# Altium integrated library TI Data Converters Analog to Digital Converter.IntLib: 2198 symbols (part 117 of 164)
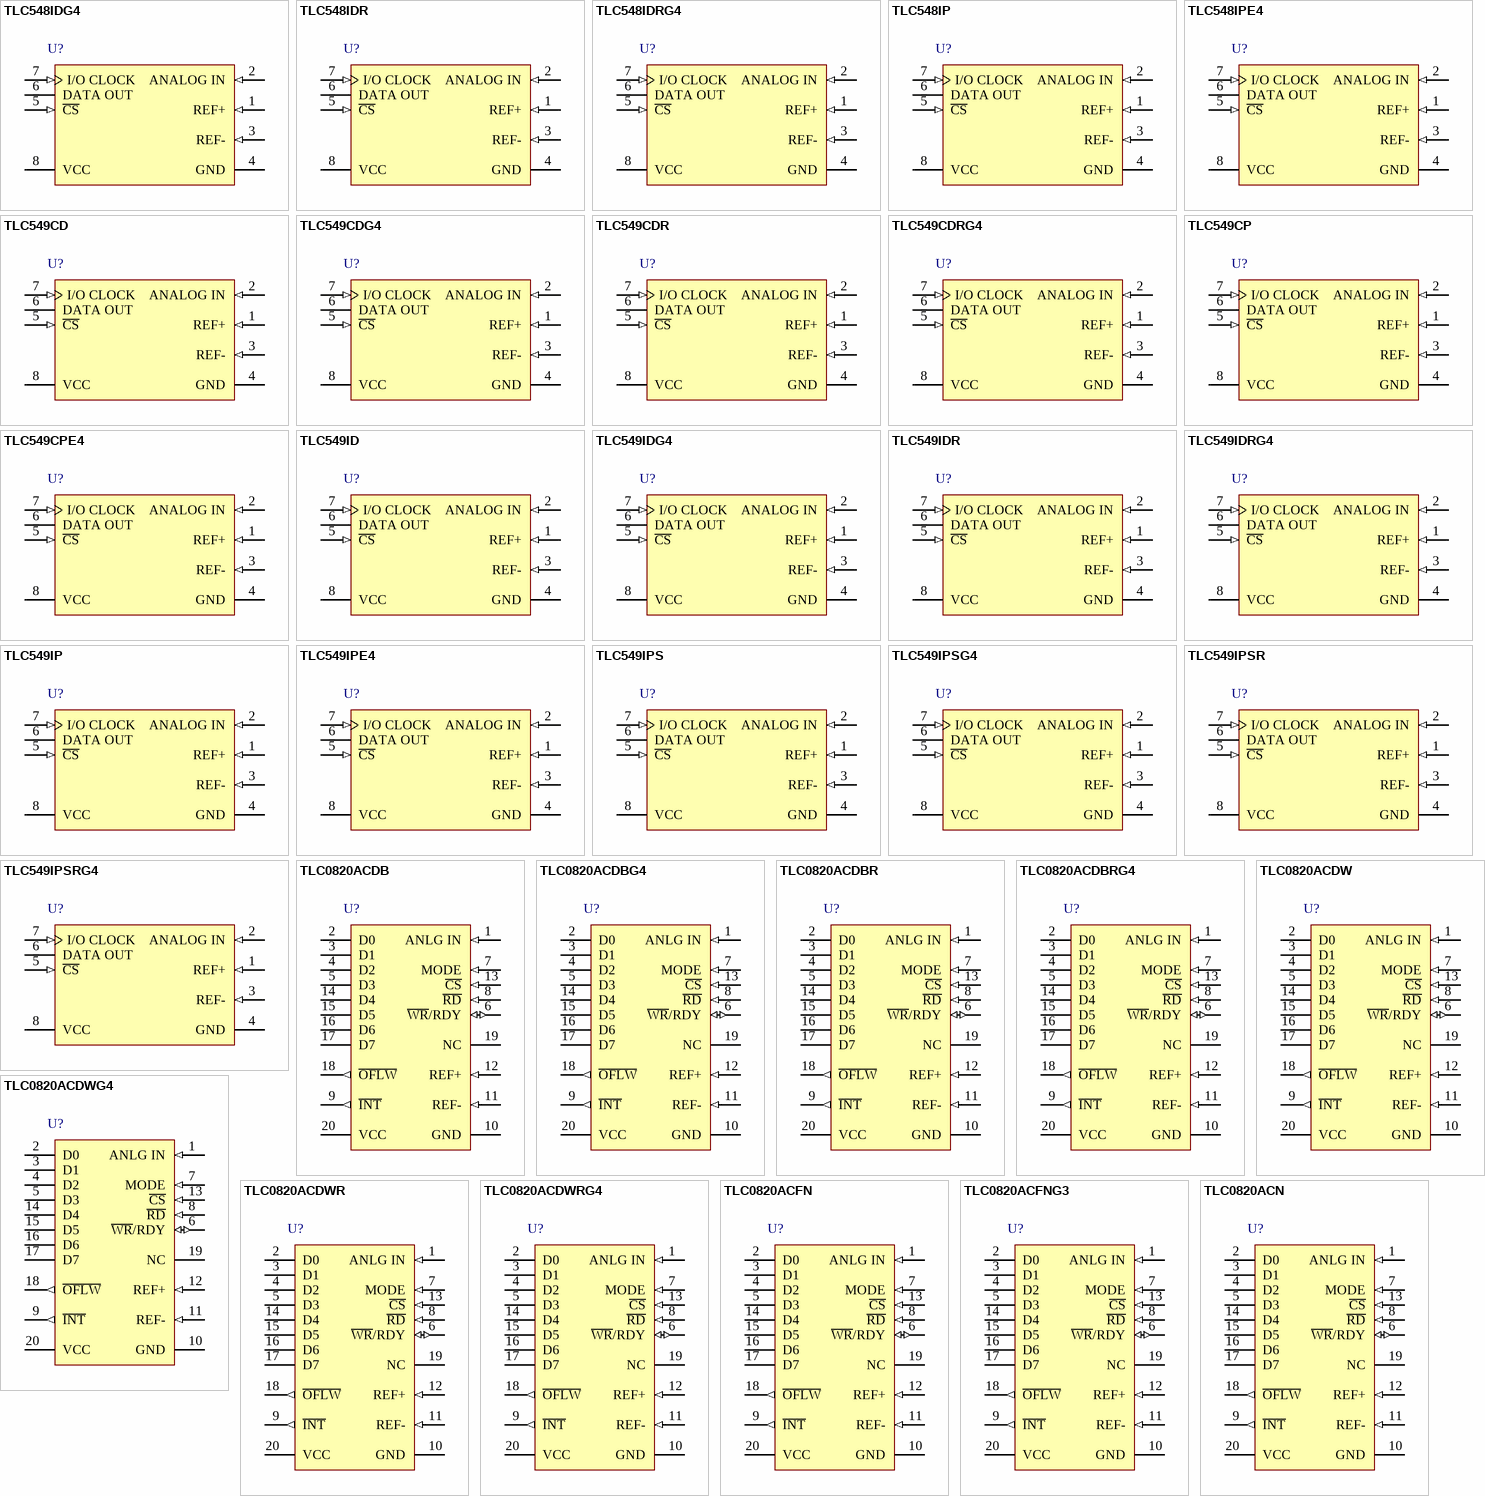
[diagram p242: symbols TLC548IDG4 to TLC0820ACN]

## TLC0820ACDWR
designator U?
8-Bit, 392 kSPS ADC Parallel Out, Microprocessor Peripheral, On-Chip Track-and-Hold, Single Channel, 0 to 70 degC, 20-pin SOIC (DW20), Green (RoHS & no Sb/Br); Manufacturer: Texas Instruments; PartNumber: TLC0820ACDWR; # Input Channels: 1; Analog Voltage AV/DD(Max)(V): 8; Analog Voltage AV/DD(Min)(V): 4.5; Architecture: SAR; Interface: Parallel CMOS; Sample Rate (max)(SPS): 392k; SubFamily: Precision ADC (<=10MSPS); DatasheetVersion: SLAS064A; PackageVersion: 4040000-4/G, 01/2011; PackageReference: DW20; PackageDescription: 20-Pin Plastic Small Outline, Body 12.8 x 7.5 mm, Pitch 1.27 mm; Supplier 1: Digi-Key; Supplier Part Number 1: TLC2543CDWG4-ND; Digital Supply(Max)(V): 8; Digital Supply(Min)(V): 4.5; Eco-Plan: Green (RoHS & no Sb/Br); Resolution(Bits): 8; Mounting Technology: Surface Mount; Code_JEDEC: MO-013; ComponentLink1Description: Manufacturer URL; ComponentLink1URL: http://www.ti.com/; ComponentLink2Description: Datasheet; ComponentLink2URL: http://www.ti.com/general/docs/lit/getliterature.tsp?genericPartNumber=TLC0820A&fileType=pdf; ComponentLink3Description: Package Specification; ComponentLink3URL: http://www.ti.com/lit/ml/mpds173a/mpds173a.pdf
footprint TI-DW20_N (SOIC, 20-Leads, Body 12.8x7.5mm, Pitch 1.27mm, IPC Medium Density)
footprint TI-DW20_L (SOIC, 20-Leads, Body 12.8x7.5mm, Pitch 1.27mm, IPC High Density)
footprint TI-DW20_M (SOIC, 20-Leads, Body 12.8x7.5mm, Pitch 1.27mm, IPC Low Density)
pins: 1 ANLG IN (in) "Analog input", 2 D0 (hiz) "Digital, 3-state output data, bit 1 (LSB)", 3 D1 (hiz) "Digital, 3-state output data, bit 2", 4 D2 (hiz) "Digital, 3-state output data, bit 3", 5 D3 (hiz) "Digital, 3-state output data, bit 4", 6 ~{WR}/RDY (io) "Write ready. In the write-read mode with C\S\ low, the conversion is started on the falling edge of the W\R\ input signal. The result of the conversion is strobed into the output latch after the internal count-down delay (See Datasheet)", 7 MODE (in) "Mode select. MODE is internally tied to GND through a 50-uA current source, which acts like a pulldown resistor.When MODE is low, the read mode is selected. When MODE is high, the write-read mode is selected.", 8 ~{RD} (in) "Read. In the write-read mode with C\S\ low, the 3-state data outputs D0 through D7 are activated when R\D\ goes low. R\D\ can also be used to increase the conversion speed by reading data prior to the end of the internal (See Datasheet)", 9 ~{INT} (out) "Interrupt. In the write-read mode, the interrupt output (I\N\T\) going low indicates that the internal count-down delay time, td(int), is complete and the data result is in the output latch. The delay time td(int) is (See Datasheet)", 10 GND (power) "Ground", 11 REF- (in) "Reference voltage. REF- is placed on the bottom of the resistor ladder.", 12 REF+ (in) "Reference voltage. REF+ is placed on the top of the resistor ladder.", 13 ~{CS} (in) "Chip select. C\S\ must be low in order for R\D\ or W\R\ to be recognized by the ADC.", 14 D4 (hiz) "Digital, 3-state output data, bit 5", 15 D5 (hiz) "Digital, 3-state output data, bit 6", 16 D6 (hiz) "Digital, 3-state output data, bit 7", 17 D7 (hiz) "Digital, 3-state output data, bit 8 (MSB)", 18 ~{OFLW} (out) "Overflow. Normally O\F\L\W\ is a logical high. However, if the analog input is higher than Vref+, O\F\L\W\ will be low at the end of conversion. It can be used to cascade two or more devices to improve resolution (9 or 10 (See Datasheet)", 19 NC "No internal connection", 20 VCC (power) "Power supply voltage"

## TLC0820ACDWRG4
designator U?
8-Bit, 392 kSPS ADC Parallel Out, Microprocessor Peripheral, On-Chip Track-and-Hold, Single Channel, 0 to 70 degC, 20-pin SOIC (DW20), Green (RoHS & no Sb/Br); Manufacturer: Texas Instruments; PartNumber: TLC0820ACDWRG4; # Input Channels: 1; Analog Voltage AV/DD(Max)(V): 8; Analog Voltage AV/DD(Min)(V): 4.5; Architecture: SAR; Interface: Parallel CMOS; Sample Rate (max)(SPS): 392k; SubFamily: Precision ADC (<=10MSPS); DatasheetVersion: SLAS064A; PackageVersion: 4040000-4/G, 01/2011; PackageReference: DW20; PackageDescription: 20-Pin Plastic Small Outline, Body 12.8 x 7.5 mm, Pitch 1.27 mm; Supplier 1: Digi-Key; Supplier Part Number 1: 296-1307-2-ND; Digital Supply(Max)(V): 8; Digital Supply(Min)(V): 4.5; Eco-Plan: Green (RoHS & no Sb/Br); Resolution(Bits): 8; Mounting Technology: Surface Mount; Code_JEDEC: MO-013; ComponentLink1Description: Manufacturer URL; ComponentLink1URL: http://www.ti.com/; ComponentLink2Description: Datasheet; ComponentLink2URL: http://www.ti.com/general/docs/lit/getliterature.tsp?genericPartNumber=TLC0820A&fileType=pdf; ComponentLink3Description: Package Specification; ComponentLink3URL: http://www.ti.com/lit/ml/mpds173a/mpds173a.pdf
footprint TI-DW20_N (SOIC, 20-Leads, Body 12.8x7.5mm, Pitch 1.27mm, IPC Medium Density)
footprint TI-DW20_L (SOIC, 20-Leads, Body 12.8x7.5mm, Pitch 1.27mm, IPC High Density)
footprint TI-DW20_M (SOIC, 20-Leads, Body 12.8x7.5mm, Pitch 1.27mm, IPC Low Density)
pins: 1 ANLG IN (in) "Analog input", 2 D0 (hiz) "Digital, 3-state output data, bit 1 (LSB)", 3 D1 (hiz) "Digital, 3-state output data, bit 2", 4 D2 (hiz) "Digital, 3-state output data, bit 3", 5 D3 (hiz) "Digital, 3-state output data, bit 4", 6 ~{WR}/RDY (io) "Write ready. In the write-read mode with C\S\ low, the conversion is started on the falling edge of the W\R\ input signal. The result of the conversion is strobed into the output latch after the internal count-down delay (See Datasheet)", 7 MODE (in) "Mode select. MODE is internally tied to GND through a 50-uA current source, which acts like a pulldown resistor.When MODE is low, the read mode is selected. When MODE is high, the write-read mode is selected.", 8 ~{RD} (in) "Read. In the write-read mode with C\S\ low, the 3-state data outputs D0 through D7 are activated when R\D\ goes low. R\D\ can also be used to increase the conversion speed by reading data prior to the end of the internal (See Datasheet)", 9 ~{INT} (out) "Interrupt. In the write-read mode, the interrupt output (I\N\T\) going low indicates that the internal count-down delay time, td(int), is complete and the data result is in the output latch. The delay time td(int) is (See Datasheet)", 10 GND (power) "Ground", 11 REF- (in) "Reference voltage. REF- is placed on the bottom of the resistor ladder.", 12 REF+ (in) "Reference voltage. REF+ is placed on the top of the resistor ladder.", 13 ~{CS} (in) "Chip select. C\S\ must be low in order for R\D\ or W\R\ to be recognized by the ADC.", 14 D4 (hiz) "Digital, 3-state output data, bit 5", 15 D5 (hiz) "Digital, 3-state output data, bit 6", 16 D6 (hiz) "Digital, 3-state output data, bit 7", 17 D7 (hiz) "Digital, 3-state output data, bit 8 (MSB)", 18 ~{OFLW} (out) "Overflow. Normally O\F\L\W\ is a logical high. However, if the analog input is higher than Vref+, O\F\L\W\ will be low at the end of conversion. It can be used to cascade two or more devices to improve resolution (9 or 10 (See Datasheet)", 19 NC "No internal connection", 20 VCC (power) "Power supply voltage"

## TLC0820ACFN
designator U?
8-Bit, 392 kSPS ADC Parallel Out, Microprocessor Peripheral, On-Chip Track-and-Hold, Single Channel, 0 to 70 degC, 20-pin PLCC (FN20), Green (RoHS & no Sb/Br); Manufacturer: Texas Instruments; PartNumber: TLC0820ACFN; # Input Channels: 1; Analog Voltage AV/DD(Max)(V): 8; Analog Voltage AV/DD(Min)(V): 4.5; Architecture: SAR; Interface: Parallel CMOS; Sample Rate (max)(SPS): 392k; SubFamily: Precision ADC (<=10MSPS); DatasheetVersion: SLAS064A; PackageVersion: 4040005/B, 03/1995; PackageReference: FN20; PackageDescription: 20-Pin Plastic Chip Carrier, Body 8.965 x 8.965 mm, Pitch 1.27 mm; Supplier 1: Digi-Key; Supplier Part Number 1: TLC2543CDWRG4-ND; Digital Supply(Max)(V): 8; Digital Supply(Min)(V): 4.5; Eco-Plan: Green (RoHS & no Sb/Br); Resolution(Bits): 8; Mounting Technology: Surface Mount; Code_JEDEC: MS-018; ComponentLink1Description: Manufacturer URL; ComponentLink1URL: http://www.ti.com/; ComponentLink2Description: Datasheet; ComponentLink2URL: http://www.ti.com/general/docs/lit/getliterature.tsp?genericPartNumber=TLC0820A&fileType=pdf; ComponentLink3Description: Package Specification; ComponentLink3URL: http://www.ti.com/litv/pdf/mplc004a
footprint TI-FN20_N (PLCC, 20-Leads, Body 8.965x8.965mm, Pitch 1.27mm, IPC Medium Density)
footprint TI-FN20_L (PLCC, 20-Leads, Body 8.965x8.965mm, Pitch 1.27mm, IPC High Density)
footprint TI-FN20_M (PLCC, 20-Leads, Body 8.965x8.965mm, Pitch 1.27mm, IPC Low Density)
pins: 1 ANLG IN (in) "Analog input", 2 D0 (hiz) "Digital, 3-state output data, bit 1 (LSB)", 3 D1 (hiz) "Digital, 3-state output data, bit 2", 4 D2 (hiz) "Digital, 3-state output data, bit 3", 5 D3 (hiz) "Digital, 3-state output data, bit 4", 6 ~{WR}/RDY (io) "Write ready. In the write-read mode with C\S\ low, the conversion is started on the falling edge of the W\R\ input signal. The result of the conversion is strobed into the output latch after the internal count-down delay (See Datasheet)", 7 MODE (in) "Mode select. MODE is internally tied to GND through a 50-uA current source, which acts like a pulldown resistor.When MODE is low, the read mode is selected. When MODE is high, the write-read mode is selected.", 8 ~{RD} (in) "Read. In the write-read mode with C\S\ low, the 3-state data outputs D0 through D7 are activated when R\D\ goes low. R\D\ can also be used to increase the conversion speed by reading data prior to the end of the internal (See Datasheet)", 9 ~{INT} (out) "Interrupt. In the write-read mode, the interrupt output (I\N\T\) going low indicates that the internal count-down delay time, td(int), is complete and the data result is in the output latch. The delay time td(int) is (See Datasheet)", 10 GND (power) "Ground", 11 REF- (in) "Reference voltage. REF- is placed on the bottom of the resistor ladder.", 12 REF+ (in) "Reference voltage. REF+ is placed on the top of the resistor ladder.", 13 ~{CS} (in) "Chip select. C\S\ must be low in order for R\D\ or W\R\ to be recognized by the ADC.", 14 D4 (hiz) "Digital, 3-state output data, bit 5", 15 D5 (hiz) "Digital, 3-state output data, bit 6", 16 D6 (hiz) "Digital, 3-state output data, bit 7", 17 D7 (hiz) "Digital, 3-state output data, bit 8 (MSB)", 18 ~{OFLW} (out) "Overflow. Normally O\F\L\W\ is a logical high. However, if the analog input is higher than Vref+, O\F\L\W\ will be low at the end of conversion. It can be used to cascade two or more devices to improve resolution (9 or 10 (See Datasheet)", 19 NC "No internal connection", 20 VCC (power) "Power supply voltage"

## TLC0820ACFNG3
designator U?
8-Bit, 392 kSPS ADC Parallel Out, Microprocessor Peripheral, On-Chip Track-and-Hold, Single Channel, 0 to 70 degC, 20-pin PLCC (FN20), Green (RoHS & no Sb/Br); Manufacturer: Texas Instruments; PartNumber: TLC0820ACFNG3; # Input Channels: 1; Analog Voltage AV/DD(Max)(V): 8; Analog Voltage AV/DD(Min)(V): 4.5; Architecture: SAR; Interface: Parallel CMOS; Sample Rate (max)(SPS): 392k; SubFamily: Precision ADC (<=10MSPS); DatasheetVersion: SLAS064A; PackageVersion: 4040005/B, 03/1995; PackageReference: FN20; PackageDescription: 20-Pin Plastic Chip Carrier, Body 8.965 x 8.965 mm, Pitch 1.27 mm; Supplier 1: Digi-Key; Supplier Part Number 1: 296-2898-5-ND; Digital Supply(Max)(V): 8; Digital Supply(Min)(V): 4.5; Eco-Plan: Green (RoHS & no Sb/Br); Resolution(Bits): 8; Mounting Technology: Surface Mount; Code_JEDEC: MS-018; ComponentLink1Description: Manufacturer URL; ComponentLink1URL: http://www.ti.com/; ComponentLink2Description: Datasheet; ComponentLink2URL: http://www.ti.com/general/docs/lit/getliterature.tsp?genericPartNumber=TLC0820A&fileType=pdf; ComponentLink3Description: Package Specification; ComponentLink3URL: http://www.ti.com/litv/pdf/mplc004a
footprint TI-FN20_N (PLCC, 20-Leads, Body 8.965x8.965mm, Pitch 1.27mm, IPC Medium Density)
footprint TI-FN20_L (PLCC, 20-Leads, Body 8.965x8.965mm, Pitch 1.27mm, IPC High Density)
footprint TI-FN20_M (PLCC, 20-Leads, Body 8.965x8.965mm, Pitch 1.27mm, IPC Low Density)
pins: 1 ANLG IN (in) "Analog input", 2 D0 (hiz) "Digital, 3-state output data, bit 1 (LSB)", 3 D1 (hiz) "Digital, 3-state output data, bit 2", 4 D2 (hiz) "Digital, 3-state output data, bit 3", 5 D3 (hiz) "Digital, 3-state output data, bit 4", 6 ~{WR}/RDY (io) "Write ready. In the write-read mode with C\S\ low, the conversion is started on the falling edge of the W\R\ input signal. The result of the conversion is strobed into the output latch after the internal count-down delay (See Datasheet)", 7 MODE (in) "Mode select. MODE is internally tied to GND through a 50-uA current source, which acts like a pulldown resistor.When MODE is low, the read mode is selected. When MODE is high, the write-read mode is selected.", 8 ~{RD} (in) "Read. In the write-read mode with C\S\ low, the 3-state data outputs D0 through D7 are activated when R\D\ goes low. R\D\ can also be used to increase the conversion speed by reading data prior to the end of the internal (See Datasheet)", 9 ~{INT} (out) "Interrupt. In the write-read mode, the interrupt output (I\N\T\) going low indicates that the internal count-down delay time, td(int), is complete and the data result is in the output latch. The delay time td(int) is (See Datasheet)", 10 GND (power) "Ground", 11 REF- (in) "Reference voltage. REF- is placed on the bottom of the resistor ladder.", 12 REF+ (in) "Reference voltage. REF+ is placed on the top of the resistor ladder.", 13 ~{CS} (in) "Chip select. C\S\ must be low in order for R\D\ or W\R\ to be recognized by the ADC.", 14 D4 (hiz) "Digital, 3-state output data, bit 5", 15 D5 (hiz) "Digital, 3-state output data, bit 6", 16 D6 (hiz) "Digital, 3-state output data, bit 7", 17 D7 (hiz) "Digital, 3-state output data, bit 8 (MSB)", 18 ~{OFLW} (out) "Overflow. Normally O\F\L\W\ is a logical high. However, if the analog input is higher than Vref+, O\F\L\W\ will be low at the end of conversion. It can be used to cascade two or more devices to improve resolution (9 or 10 (See Datasheet)", 19 NC "No internal connection", 20 VCC (power) "Power supply voltage"

## TLC0820ACN
designator U?
8-Bit, 392 kSPS ADC Parallel Out, Microprocessor Peripheral, On-Chip Track-and-Hold, Single Channel, 0 to 70 degC, 20-pin DIP (N20), Pb-Free (RoHS); Manufacturer: Texas Instruments; PartNumber: TLC0820ACN; # Input Channels: 1; Analog Voltage AV/DD(Max)(V): 8; Analog Voltage AV/DD(Min)(V): 4.5; Architecture: SAR; Interface: Parallel CMOS; Sample Rate (max)(SPS): 392k; SubFamily: Precision ADC (<=10MSPS); DatasheetVersion: SLAS064A; PackageVersion: 4040049/E, 12/2002; PackageReference: N20; PackageDescription: 20-Pin Plastic In-Line, Body 25.40 x 6.35 mm, Pitch 2.54 mm; Supplier 1: Digi-Key; Supplier Part Number 1: TLC2543CFNG3-ND; Digital Supply(Max)(V): 8; Digital Supply(Min)(V): 4.5; Eco-Plan: Pb-Free (RoHS); Resolution(Bits): 8; Mounting Technology: Through Hole; Code_JEDEC: MS-001; ComponentLink1Description: Manufacturer URL; ComponentLink1URL: http://www.ti.com/; ComponentLink2Description: Datasheet; ComponentLink2URL: http://www.ti.com/general/docs/lit/getliterature.tsp?genericPartNumber=TLC0820A&fileType=pdf; ComponentLink3Description: Package Specification; ComponentLink3URL: http://www.ti.com/lit/ml/mpdi002c/mpdi002c.pdf
footprint TI-N20 (DIP, 20-Leads, Body 25.4x6.35 mm, Pitch 2.54 mm)
pins: 1 ANLG IN (in) "Analog input", 2 D0 (hiz) "Digital, 3-state output data, bit 1 (LSB)", 3 D1 (hiz) "Digital, 3-state output data, bit 2", 4 D2 (hiz) "Digital, 3-state output data, bit 3", 5 D3 (hiz) "Digital, 3-state output data, bit 4", 6 ~{WR}/RDY (io) "Write ready. In the write-read mode with C\S\ low, the conversion is started on the falling edge of the W\R\ input signal. The result of the conversion is strobed into the output latch after the internal count-down delay (See Datasheet)", 7 MODE (in) "Mode select. MODE is internally tied to GND through a 50-uA current source, which acts like a pulldown resistor.When MODE is low, the read mode is selected. When MODE is high, the write-read mode is selected.", 8 ~{RD} (in) "Read. In the write-read mode with C\S\ low, the 3-state data outputs D0 through D7 are activated when R\D\ goes low. R\D\ can also be used to increase the conversion speed by reading data prior to the end of the internal (See Datasheet)", 9 ~{INT} (out) "Interrupt. In the write-read mode, the interrupt output (I\N\T\) going low indicates that the internal count-down delay time, td(int), is complete and the data result is in the output latch. The delay time td(int) is (See Datasheet)", 10 GND (power) "Ground", 11 REF- (in) "Reference voltage. REF- is placed on the bottom of the resistor ladder.", 12 REF+ (in) "Reference voltage. REF+ is placed on the top of the resistor ladder.", 13 ~{CS} (in) "Chip select. C\S\ must be low in order for R\D\ or W\R\ to be recognized by the ADC.", 14 D4 (hiz) "Digital, 3-state output data, bit 5", 15 D5 (hiz) "Digital, 3-state output data, bit 6", 16 D6 (hiz) "Digital, 3-state output data, bit 7", 17 D7 (hiz) "Digital, 3-state output data, bit 8 (MSB)", 18 ~{OFLW} (out) "Overflow. Normally O\F\L\W\ is a logical high. However, if the analog input is higher than Vref+, O\F\L\W\ will be low at the end of conversion. It can be used to cascade two or more devices to improve resolution (9 or 10 (See Datasheet)", 19 NC "No internal connection", 20 VCC (power) "Power supply voltage"

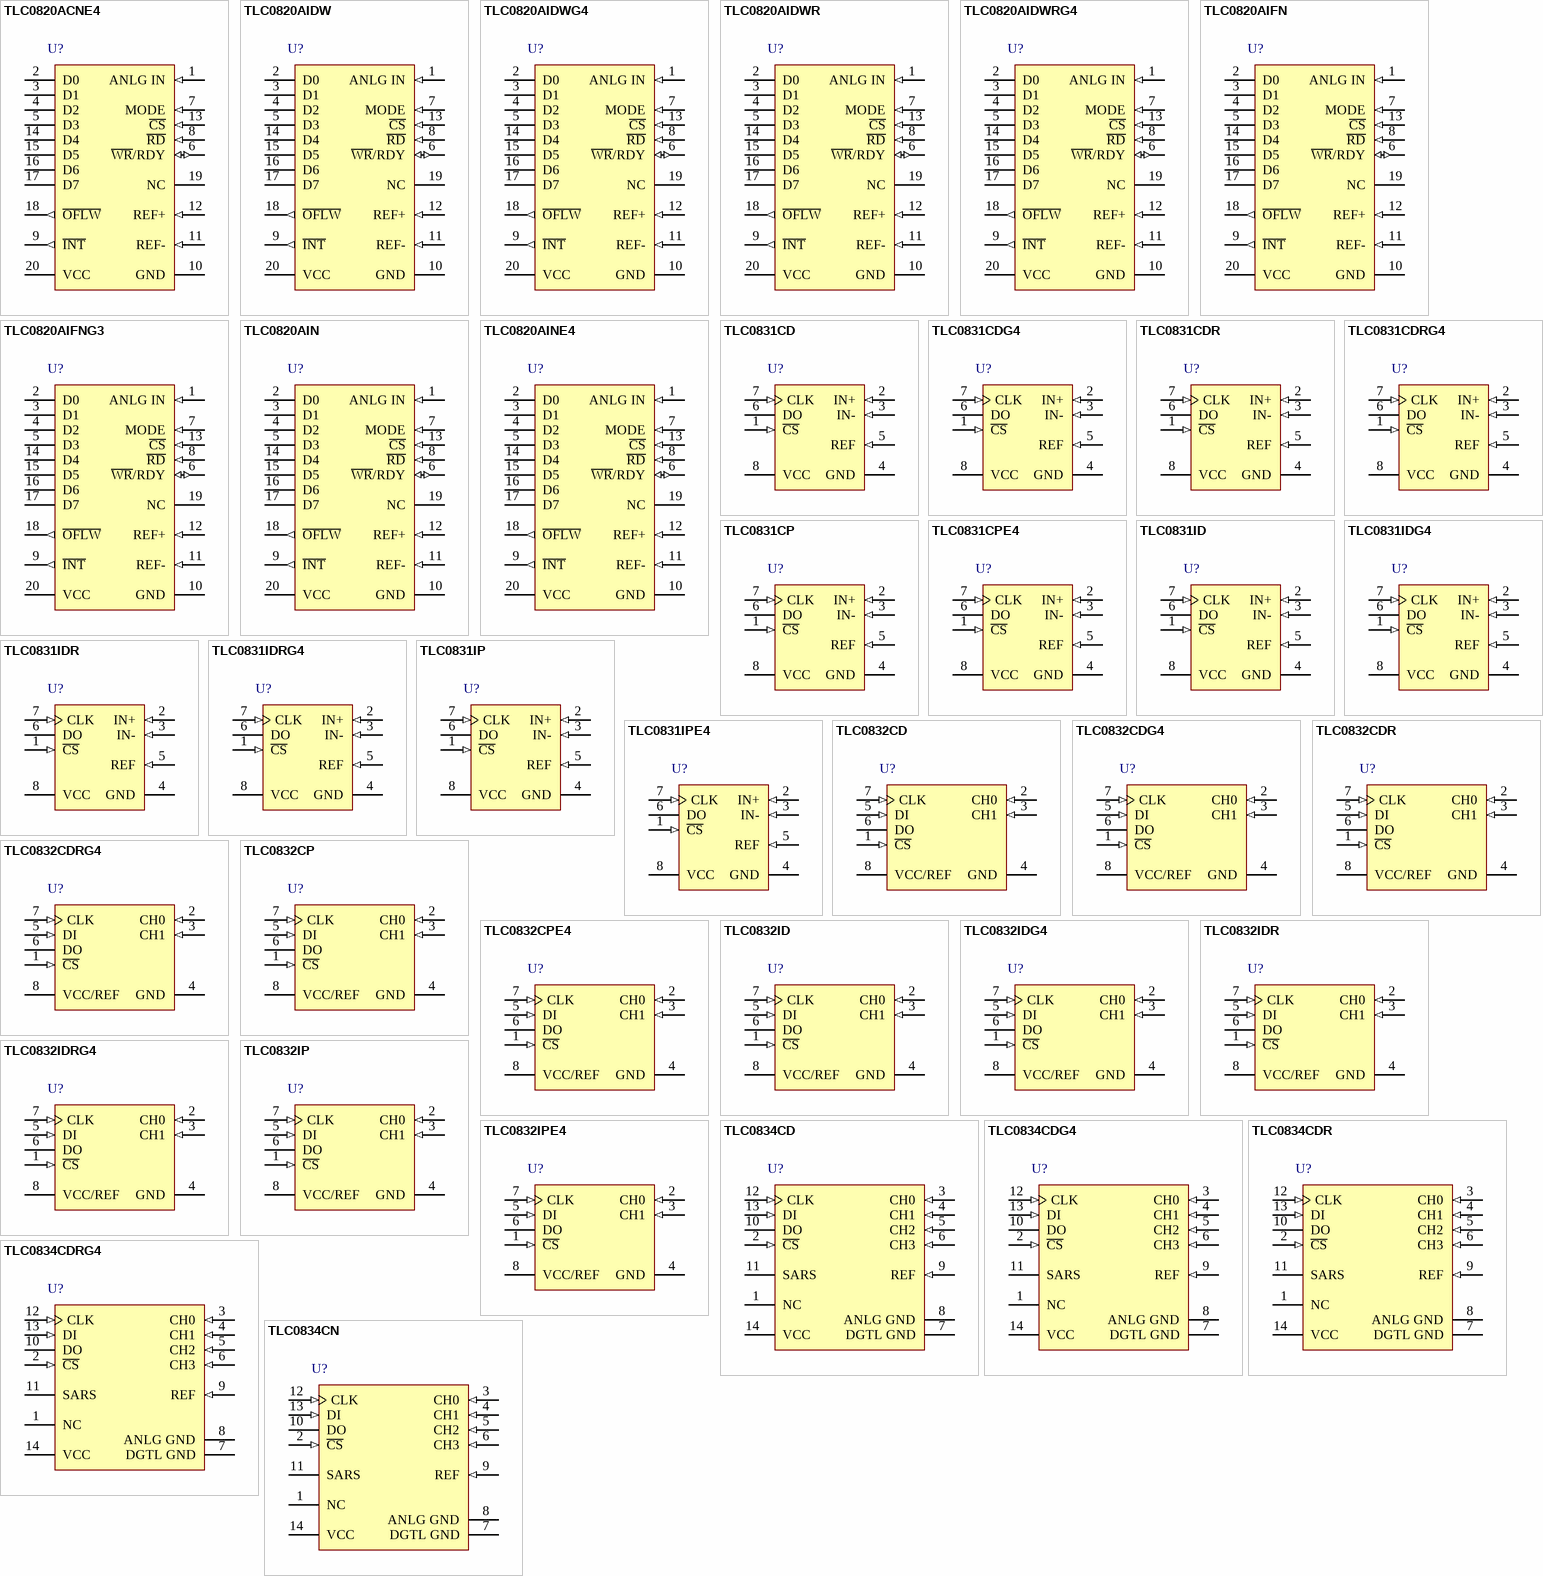
[diagram p103: symbols TLC0820ACNE4 to TLC0834CN]

## TLC0820ACNE4
designator U?
8-Bit, 392 kSPS ADC Parallel Out, Microprocessor Peripheral, On-Chip Track-and-Hold, Single Channel, 0 to 70 degC, 20-pin DIP (N20), Pb-Free (RoHS); Manufacturer: Texas Instruments; PartNumber: TLC0820ACNE4; # Input Channels: 1; Analog Voltage AV/DD(Max)(V): 8; Analog Voltage AV/DD(Min)(V): 4.5; Architecture: SAR; Interface: Parallel CMOS; Sample Rate (max)(SPS): 392k; SubFamily: Precision ADC (<=10MSPS); DatasheetVersion: SLAS064A; PackageVersion: 4040049/E, 12/2002; PackageReference: N20; PackageDescription: 20-Pin Plastic In-Line, Body 25.40 x 6.35 mm, Pitch 2.54 mm; Supplier 1: Digi-Key; Supplier Part Number 1: TLC2543CFNR-ND; Digital Supply(Max)(V): 8; Digital Supply(Min)(V): 4.5; Eco-Plan: Pb-Free (RoHS); Resolution(Bits): 8; Mounting Technology: Through Hole; Code_JEDEC: MS-001; ComponentLink1Description: Manufacturer URL; ComponentLink1URL: http://www.ti.com/; ComponentLink2Description: Datasheet; ComponentLink2URL: http://www.ti.com/general/docs/lit/getliterature.tsp?genericPartNumber=TLC0820A&fileType=pdf; ComponentLink3Description: Package Specification; ComponentLink3URL: http://www.ti.com/lit/ml/mpdi002c/mpdi002c.pdf
footprint TI-N20 (DIP, 20-Leads, Body 25.4x6.35 mm, Pitch 2.54 mm)
pins: 1 ANLG IN (in) "Analog input", 2 D0 (hiz) "Digital, 3-state output data, bit 1 (LSB)", 3 D1 (hiz) "Digital, 3-state output data, bit 2", 4 D2 (hiz) "Digital, 3-state output data, bit 3", 5 D3 (hiz) "Digital, 3-state output data, bit 4", 6 ~{WR}/RDY (io) "Write ready. In the write-read mode with C\S\ low, the conversion is started on the falling edge of the W\R\ input signal. The result of the conversion is strobed into the output latch after the internal count-down delay (See Datasheet)", 7 MODE (in) "Mode select. MODE is internally tied to GND through a 50-uA current source, which acts like a pulldown resistor.When MODE is low, the read mode is selected. When MODE is high, the write-read mode is selected.", 8 ~{RD} (in) "Read. In the write-read mode with C\S\ low, the 3-state data outputs D0 through D7 are activated when R\D\ goes low. R\D\ can also be used to increase the conversion speed by reading data prior to the end of the internal (See Datasheet)", 9 ~{INT} (out) "Interrupt. In the write-read mode, the interrupt output (I\N\T\) going low indicates that the internal count-down delay time, td(int), is complete and the data result is in the output latch. The delay time td(int) is (See Datasheet)", 10 GND (power) "Ground", 11 REF- (in) "Reference voltage. REF- is placed on the bottom of the resistor ladder.", 12 REF+ (in) "Reference voltage. REF+ is placed on the top of the resistor ladder.", 13 ~{CS} (in) "Chip select. C\S\ must be low in order for R\D\ or W\R\ to be recognized by the ADC.", 14 D4 (hiz) "Digital, 3-state output data, bit 5", 15 D5 (hiz) "Digital, 3-state output data, bit 6", 16 D6 (hiz) "Digital, 3-state output data, bit 7", 17 D7 (hiz) "Digital, 3-state output data, bit 8 (MSB)", 18 ~{OFLW} (out) "Overflow. Normally O\F\L\W\ is a logical high. However, if the analog input is higher than Vref+, O\F\L\W\ will be low at the end of conversion. It can be used to cascade two or more devices to improve resolution (9 or 10 (See Datasheet)", 19 NC "No internal connection", 20 VCC (power) "Power supply voltage"

## TLC0820AIDW
designator U?
8-Bit, 392 kSPS ADC Parallel Out, Microprocessor Peripheral, On-Chip Track-and-Hold, Single Channel, -40 to 85 degC, 20-pin SOIC (DW20), Green (RoHS & no Sb/Br); Manufacturer: Texas Instruments; PartNumber: TLC0820AIDW; # Input Channels: 1; Analog Voltage AV/DD(Max)(V): 8; Analog Voltage AV/DD(Min)(V): 4.5; Architecture: SAR; Interface: Parallel CMOS; Sample Rate (max)(SPS): 392k; SubFamily: Precision ADC (<=10MSPS); DatasheetVersion: SLAS064A; PackageVersion: 4040000-4/G, 01/2011; PackageReference: DW20; PackageDescription: 20-Pin Plastic Small Outline, Body 12.8 x 7.5 mm, Pitch 1.27 mm; Supplier 1: Digi-Key; Supplier Part Number 1: TLC2543CFNRG3-ND; Digital Supply(Max)(V): 8; Digital Supply(Min)(V): 4.5; Eco-Plan: Green (RoHS & no Sb/Br); Resolution(Bits): 8; Mounting Technology: Surface Mount; Code_JEDEC: MO-013; ComponentLink1Description: Manufacturer URL; ComponentLink1URL: http://www.ti.com/; ComponentLink2Description: Datasheet; ComponentLink2URL: http://www.ti.com/general/docs/lit/getliterature.tsp?genericPartNumber=TLC0820A&fileType=pdf; ComponentLink3Description: Package Specification; ComponentLink3URL: http://www.ti.com/lit/ml/mpds173a/mpds173a.pdf
footprint TI-DW20_N (SOIC, 20-Leads, Body 12.8x7.5mm, Pitch 1.27mm, IPC Medium Density)
footprint TI-DW20_L (SOIC, 20-Leads, Body 12.8x7.5mm, Pitch 1.27mm, IPC High Density)
footprint TI-DW20_M (SOIC, 20-Leads, Body 12.8x7.5mm, Pitch 1.27mm, IPC Low Density)
pins: 1 ANLG IN (in) "Analog input", 2 D0 (hiz) "Digital, 3-state output data, bit 1 (LSB)", 3 D1 (hiz) "Digital, 3-state output data, bit 2", 4 D2 (hiz) "Digital, 3-state output data, bit 3", 5 D3 (hiz) "Digital, 3-state output data, bit 4", 6 ~{WR}/RDY (io) "Write ready. In the write-read mode with C\S\ low, the conversion is started on the falling edge of the W\R\ input signal. The result of the conversion is strobed into the output latch after the internal count-down delay (See Datasheet)", 7 MODE (in) "Mode select. MODE is internally tied to GND through a 50-uA current source, which acts like a pulldown resistor.When MODE is low, the read mode is selected. When MODE is high, the write-read mode is selected.", 8 ~{RD} (in) "Read. In the write-read mode with C\S\ low, the 3-state data outputs D0 through D7 are activated when R\D\ goes low. R\D\ can also be used to increase the conversion speed by reading data prior to the end of the internal (See Datasheet)", 9 ~{INT} (out) "Interrupt. In the write-read mode, the interrupt output (I\N\T\) going low indicates that the internal count-down delay time, td(int), is complete and the data result is in the output latch. The delay time td(int) is (See Datasheet)", 10 GND (power) "Ground", 11 REF- (in) "Reference voltage. REF- is placed on the bottom of the resistor ladder.", 12 REF+ (in) "Reference voltage. REF+ is placed on the top of the resistor ladder.", 13 ~{CS} (in) "Chip select. C\S\ must be low in order for R\D\ or W\R\ to be recognized by the ADC.", 14 D4 (hiz) "Digital, 3-state output data, bit 5", 15 D5 (hiz) "Digital, 3-state output data, bit 6", 16 D6 (hiz) "Digital, 3-state output data, bit 7", 17 D7 (hiz) "Digital, 3-state output data, bit 8 (MSB)", 18 ~{OFLW} (out) "Overflow. Normally O\F\L\W\ is a logical high. However, if the analog input is higher than Vref+, O\F\L\W\ will be low at the end of conversion. It can be used to cascade two or more devices to improve resolution (9 or 10 (See Datasheet)", 19 NC "No internal connection", 20 VCC (power) "Power supply voltage"

## TLC0820AIDWG4
designator U?
8-Bit, 392 kSPS ADC Parallel Out, Microprocessor Peripheral, On-Chip Track-and-Hold, Single Channel, -40 to 85 degC, 20-pin SOIC (DW20), Green (RoHS & no Sb/Br); Manufacturer: Texas Instruments; PartNumber: TLC0820AIDWG4; # Input Channels: 1; Analog Voltage AV/DD(Max)(V): 8; Analog Voltage AV/DD(Min)(V): 4.5; Architecture: SAR; Interface: Parallel CMOS; Sample Rate (max)(SPS): 392k; SubFamily: Precision ADC (<=10MSPS); DatasheetVersion: SLAS064A; PackageVersion: 4040000-4/G, 01/2011; PackageReference: DW20; PackageDescription: 20-Pin Plastic Small Outline, Body 12.8 x 7.5 mm, Pitch 1.27 mm; Supplier 1: Digi-Key; Supplier Part Number 1: 296-1816-5-ND; Digital Supply(Max)(V): 8; Digital Supply(Min)(V): 4.5; Eco-Plan: Green (RoHS & no Sb/Br); Resolution(Bits): 8; Mounting Technology: Surface Mount; Code_JEDEC: MO-013; ComponentLink1Description: Manufacturer URL; ComponentLink1URL: http://www.ti.com/; ComponentLink2Description: Datasheet; ComponentLink2URL: http://www.ti.com/general/docs/lit/getliterature.tsp?genericPartNumber=TLC0820A&fileType=pdf; ComponentLink3Description: Package Specification; ComponentLink3URL: http://www.ti.com/lit/ml/mpds173a/mpds173a.pdf
footprint TI-DW20_N (SOIC, 20-Leads, Body 12.8x7.5mm, Pitch 1.27mm, IPC Medium Density)
footprint TI-DW20_L (SOIC, 20-Leads, Body 12.8x7.5mm, Pitch 1.27mm, IPC High Density)
footprint TI-DW20_M (SOIC, 20-Leads, Body 12.8x7.5mm, Pitch 1.27mm, IPC Low Density)
pins: 1 ANLG IN (in) "Analog input", 2 D0 (hiz) "Digital, 3-state output data, bit 1 (LSB)", 3 D1 (hiz) "Digital, 3-state output data, bit 2", 4 D2 (hiz) "Digital, 3-state output data, bit 3", 5 D3 (hiz) "Digital, 3-state output data, bit 4", 6 ~{WR}/RDY (io) "Write ready. In the write-read mode with C\S\ low, the conversion is started on the falling edge of the W\R\ input signal. The result of the conversion is strobed into the output latch after the internal count-down delay (See Datasheet)", 7 MODE (in) "Mode select. MODE is internally tied to GND through a 50-uA current source, which acts like a pulldown resistor.When MODE is low, the read mode is selected. When MODE is high, the write-read mode is selected.", 8 ~{RD} (in) "Read. In the write-read mode with C\S\ low, the 3-state data outputs D0 through D7 are activated when R\D\ goes low. R\D\ can also be used to increase the conversion speed by reading data prior to the end of the internal (See Datasheet)", 9 ~{INT} (out) "Interrupt. In the write-read mode, the interrupt output (I\N\T\) going low indicates that the internal count-down delay time, td(int), is complete and the data result is in the output latch. The delay time td(int) is (See Datasheet)", 10 GND (power) "Ground", 11 REF- (in) "Reference voltage. REF- is placed on the bottom of the resistor ladder.", 12 REF+ (in) "Reference voltage. REF+ is placed on the top of the resistor ladder.", 13 ~{CS} (in) "Chip select. C\S\ must be low in order for R\D\ or W\R\ to be recognized by the ADC.", 14 D4 (hiz) "Digital, 3-state output data, bit 5", 15 D5 (hiz) "Digital, 3-state output data, bit 6", 16 D6 (hiz) "Digital, 3-state output data, bit 7", 17 D7 (hiz) "Digital, 3-state output data, bit 8 (MSB)", 18 ~{OFLW} (out) "Overflow. Normally O\F\L\W\ is a logical high. However, if the analog input is higher than Vref+, O\F\L\W\ will be low at the end of conversion. It can be used to cascade two or more devices to improve resolution (9 or 10 (See Datasheet)", 19 NC "No internal connection", 20 VCC (power) "Power supply voltage"

## TLC0820AIDWR
designator U?
8-Bit, 392 kSPS ADC Parallel Out, Microprocessor Peripheral, On-Chip Track-and-Hold, Single Channel, -40 to 85 degC, 20-pin SOIC (DW20), Green (RoHS & no Sb/Br); Manufacturer: Texas Instruments; PartNumber: TLC0820AIDWR; # Input Channels: 1; Analog Voltage AV/DD(Max)(V): 8; Analog Voltage AV/DD(Min)(V): 4.5; Architecture: SAR; Interface: Parallel CMOS; Sample Rate (max)(SPS): 392k; SubFamily: Precision ADC (<=10MSPS); DatasheetVersion: SLAS064A; PackageVersion: 4040000-4/G, 01/2011; PackageReference: DW20; PackageDescription: 20-Pin Plastic Small Outline, Body 12.8 x 7.5 mm, Pitch 1.27 mm; Supplier 1: Digi-Key; Supplier Part Number 1: TLC2543CNE4-ND; Digital Supply(Max)(V): 8; Digital Supply(Min)(V): 4.5; Eco-Plan: Green (RoHS & no Sb/Br); Resolution(Bits): 8; Mounting Technology: Surface Mount; Code_JEDEC: MO-013; ComponentLink1Description: Manufacturer URL; ComponentLink1URL: http://www.ti.com/; ComponentLink2Description: Datasheet; ComponentLink2URL: http://www.ti.com/general/docs/lit/getliterature.tsp?genericPartNumber=TLC0820A&fileType=pdf; ComponentLink3Description: Package Specification; ComponentLink3URL: http://www.ti.com/lit/ml/mpds173a/mpds173a.pdf
footprint TI-DW20_N (SOIC, 20-Leads, Body 12.8x7.5mm, Pitch 1.27mm, IPC Medium Density)
footprint TI-DW20_L (SOIC, 20-Leads, Body 12.8x7.5mm, Pitch 1.27mm, IPC High Density)
footprint TI-DW20_M (SOIC, 20-Leads, Body 12.8x7.5mm, Pitch 1.27mm, IPC Low Density)
pins: 1 ANLG IN (in) "Analog input", 2 D0 (hiz) "Digital, 3-state output data, bit 1 (LSB)", 3 D1 (hiz) "Digital, 3-state output data, bit 2", 4 D2 (hiz) "Digital, 3-state output data, bit 3", 5 D3 (hiz) "Digital, 3-state output data, bit 4", 6 ~{WR}/RDY (io) "Write ready. In the write-read mode with C\S\ low, the conversion is started on the falling edge of the W\R\ input signal. The result of the conversion is strobed into the output latch after the internal count-down delay (See Datasheet)", 7 MODE (in) "Mode select. MODE is internally tied to GND through a 50-uA current source, which acts like a pulldown resistor.When MODE is low, the read mode is selected. When MODE is high, the write-read mode is selected.", 8 ~{RD} (in) "Read. In the write-read mode with C\S\ low, the 3-state data outputs D0 through D7 are activated when R\D\ goes low. R\D\ can also be used to increase the conversion speed by reading data prior to the end of the internal (See Datasheet)", 9 ~{INT} (out) "Interrupt. In the write-read mode, the interrupt output (I\N\T\) going low indicates that the internal count-down delay time, td(int), is complete and the data result is in the output latch. The delay time td(int) is (See Datasheet)", 10 GND (power) "Ground", 11 REF- (in) "Reference voltage. REF- is placed on the bottom of the resistor ladder.", 12 REF+ (in) "Reference voltage. REF+ is placed on the top of the resistor ladder.", 13 ~{CS} (in) "Chip select. C\S\ must be low in order for R\D\ or W\R\ to be recognized by the ADC.", 14 D4 (hiz) "Digital, 3-state output data, bit 5", 15 D5 (hiz) "Digital, 3-state output data, bit 6", 16 D6 (hiz) "Digital, 3-state output data, bit 7", 17 D7 (hiz) "Digital, 3-state output data, bit 8 (MSB)", 18 ~{OFLW} (out) "Overflow. Normally O\F\L\W\ is a logical high. However, if the analog input is higher than Vref+, O\F\L\W\ will be low at the end of conversion. It can be used to cascade two or more devices to improve resolution (9 or 10 (See Datasheet)", 19 NC "No internal connection", 20 VCC (power) "Power supply voltage"

## TLC0820AIDWRG4
designator U?
8-Bit, 392 kSPS ADC Parallel Out, Microprocessor Peripheral, On-Chip Track-and-Hold, Single Channel, -40 to 85 degC, 20-pin SOIC (DW20), Green (RoHS & no Sb/Br); Manufacturer: Texas Instruments; PartNumber: TLC0820AIDWRG4; # Input Channels: 1; Analog Voltage AV/DD(Max)(V): 8; Analog Voltage AV/DD(Min)(V): 4.5; Architecture: SAR; Interface: Parallel CMOS; Sample Rate (max)(SPS): 392k; SubFamily: Precision ADC (<=10MSPS); DatasheetVersion: SLAS064A; PackageVersion: 4040000-4/G, 01/2011; PackageReference: DW20; PackageDescription: 20-Pin Plastic Small Outline, Body 12.8 x 7.5 mm, Pitch 1.27 mm; Supplier 1: Digi-Key; Supplier Part Number 1: 296-2899-5-ND; Digital Supply(Max)(V): 8; Digital Supply(Min)(V): 4.5; Eco-Plan: Green (RoHS & no Sb/Br); Resolution(Bits): 8; Mounting Technology: Surface Mount; Code_JEDEC: MO-013; ComponentLink1Description: Manufacturer URL; ComponentLink1URL: http://www.ti.com/; ComponentLink2Description: Datasheet; ComponentLink2URL: http://www.ti.com/general/docs/lit/getliterature.tsp?genericPartNumber=TLC0820A&fileType=pdf; ComponentLink3Description: Package Specification; ComponentLink3URL: http://www.ti.com/lit/ml/mpds173a/mpds173a.pdf
footprint TI-DW20_N (SOIC, 20-Leads, Body 12.8x7.5mm, Pitch 1.27mm, IPC Medium Density)
footprint TI-DW20_L (SOIC, 20-Leads, Body 12.8x7.5mm, Pitch 1.27mm, IPC High Density)
footprint TI-DW20_M (SOIC, 20-Leads, Body 12.8x7.5mm, Pitch 1.27mm, IPC Low Density)
pins: 1 ANLG IN (in) "Analog input", 2 D0 (hiz) "Digital, 3-state output data, bit 1 (LSB)", 3 D1 (hiz) "Digital, 3-state output data, bit 2", 4 D2 (hiz) "Digital, 3-state output data, bit 3", 5 D3 (hiz) "Digital, 3-state output data, bit 4", 6 ~{WR}/RDY (io) "Write ready. In the write-read mode with C\S\ low, the conversion is started on the falling edge of the W\R\ input signal. The result of the conversion is strobed into the output latch after the internal count-down delay (See Datasheet)", 7 MODE (in) "Mode select. MODE is internally tied to GND through a 50-uA current source, which acts like a pulldown resistor.When MODE is low, the read mode is selected. When MODE is high, the write-read mode is selected.", 8 ~{RD} (in) "Read. In the write-read mode with C\S\ low, the 3-state data outputs D0 through D7 are activated when R\D\ goes low. R\D\ can also be used to increase the conversion speed by reading data prior to the end of the internal (See Datasheet)", 9 ~{INT} (out) "Interrupt. In the write-read mode, the interrupt output (I\N\T\) going low indicates that the internal count-down delay time, td(int), is complete and the data result is in the output latch. The delay time td(int) is (See Datasheet)", 10 GND (power) "Ground", 11 REF- (in) "Reference voltage. REF- is placed on the bottom of the resistor ladder.", 12 REF+ (in) "Reference voltage. REF+ is placed on the top of the resistor ladder.", 13 ~{CS} (in) "Chip select. C\S\ must be low in order for R\D\ or W\R\ to be recognized by the ADC.", 14 D4 (hiz) "Digital, 3-state output data, bit 5", 15 D5 (hiz) "Digital, 3-state output data, bit 6", 16 D6 (hiz) "Digital, 3-state output data, bit 7", 17 D7 (hiz) "Digital, 3-state output data, bit 8 (MSB)", 18 ~{OFLW} (out) "Overflow. Normally O\F\L\W\ is a logical high. However, if the analog input is higher than Vref+, O\F\L\W\ will be low at the end of conversion. It can be used to cascade two or more devices to improve resolution (9 or 10 (See Datasheet)", 19 NC "No internal connection", 20 VCC (power) "Power supply voltage"

## TLC0820AIFN
designator U?
8-Bit, 392 kSPS ADC Parallel Out, Microprocessor Peripheral, On-Chip Track-and-Hold, Single Channel, -40 to 85 degC, 20-pin PLCC (FN20), Green (RoHS & no Sb/Br); Manufacturer: Texas Instruments; PartNumber: TLC0820AIFN; # Input Channels: 1; Analog Voltage AV/DD(Max)(V): 8; Analog Voltage AV/DD(Min)(V): 4.5; Architecture: SAR; Interface: Parallel CMOS; Sample Rate (max)(SPS): 392k; SubFamily: Precision ADC (<=10MSPS); DatasheetVersion: SLAS064A; PackageVersion: 4040005/B, 03/1995; PackageReference: FN20; PackageDescription: 20-Pin Plastic Chip Carrier, Body 8.965 x 8.965 mm, Pitch 1.27 mm; Supplier 1: Digi-Key; Supplier Part Number 1: TLC2543IDBG4-ND; Digital Supply(Max)(V): 8; Digital Supply(Min)(V): 4.5; Eco-Plan: Green (RoHS & no Sb/Br); Resolution(Bits): 8; Mounting Technology: Surface Mount; Code_JEDEC: MS-018; ComponentLink1Description: Manufacturer URL; ComponentLink1URL: http://www.ti.com/; ComponentLink2Description: Datasheet; ComponentLink2URL: http://www.ti.com/general/docs/lit/getliterature.tsp?genericPartNumber=TLC0820A&fileType=pdf; ComponentLink3Description: Package Specification; ComponentLink3URL: http://www.ti.com/litv/pdf/mplc004a
footprint TI-FN20_N (PLCC, 20-Leads, Body 8.965x8.965mm, Pitch 1.27mm, IPC Medium Density)
footprint TI-FN20_L (PLCC, 20-Leads, Body 8.965x8.965mm, Pitch 1.27mm, IPC High Density)
footprint TI-FN20_M (PLCC, 20-Leads, Body 8.965x8.965mm, Pitch 1.27mm, IPC Low Density)
pins: 1 ANLG IN (in) "Analog input", 2 D0 (hiz) "Digital, 3-state output data, bit 1 (LSB)", 3 D1 (hiz) "Digital, 3-state output data, bit 2", 4 D2 (hiz) "Digital, 3-state output data, bit 3", 5 D3 (hiz) "Digital, 3-state output data, bit 4", 6 ~{WR}/RDY (io) "Write ready. In the write-read mode with C\S\ low, the conversion is started on the falling edge of the W\R\ input signal. The result of the conversion is strobed into the output latch after the internal count-down delay (See Datasheet)", 7 MODE (in) "Mode select. MODE is internally tied to GND through a 50-uA current source, which acts like a pulldown resistor.When MODE is low, the read mode is selected. When MODE is high, the write-read mode is selected.", 8 ~{RD} (in) "Read. In the write-read mode with C\S\ low, the 3-state data outputs D0 through D7 are activated when R\D\ goes low. R\D\ can also be used to increase the conversion speed by reading data prior to the end of the internal (See Datasheet)", 9 ~{INT} (out) "Interrupt. In the write-read mode, the interrupt output (I\N\T\) going low indicates that the internal count-down delay time, td(int), is complete and the data result is in the output latch. The delay time td(int) is (See Datasheet)", 10 GND (power) "Ground", 11 REF- (in) "Reference voltage. REF- is placed on the bottom of the resistor ladder.", 12 REF+ (in) "Reference voltage. REF+ is placed on the top of the resistor ladder.", 13 ~{CS} (in) "Chip select. C\S\ must be low in order for R\D\ or W\R\ to be recognized by the ADC.", 14 D4 (hiz) "Digital, 3-state output data, bit 5", 15 D5 (hiz) "Digital, 3-state output data, bit 6", 16 D6 (hiz) "Digital, 3-state output data, bit 7", 17 D7 (hiz) "Digital, 3-state output data, bit 8 (MSB)", 18 ~{OFLW} (out) "Overflow. Normally O\F\L\W\ is a logical high. However, if the analog input is higher than Vref+, O\F\L\W\ will be low at the end of conversion. It can be used to cascade two or more devices to improve resolution (9 or 10 (See Datasheet)", 19 NC "No internal connection", 20 VCC (power) "Power supply voltage"

## TLC0820AIFNG3
designator U?
8-Bit, 392 kSPS ADC Parallel Out, Microprocessor Peripheral, On-Chip Track-and-Hold, Single Channel, -40 to 85 degC, 20-pin PLCC (FN20), Green (RoHS & no Sb/Br); Manufacturer: Texas Instruments; PartNumber: TLC0820AIFNG3; # Input Channels: 1; Analog Voltage AV/DD(Max)(V): 8; Analog Voltage AV/DD(Min)(V): 4.5; Architecture: SAR; Interface: Parallel CMOS; Sample Rate (max)(SPS): 392k; SubFamily: Precision ADC (<=10MSPS); DatasheetVersion: SLAS064A; PackageVersion: 4040005/B, 03/1995; PackageReference: FN20; PackageDescription: 20-Pin Plastic Chip Carrier, Body 8.965 x 8.965 mm, Pitch 1.27 mm; Supplier 1: Digi-Key; Supplier Part Number 1: TLC2543IDBR-ND; Digital Supply(Max)(V): 8; Digital Supply(Min)(V): 4.5; Eco-Plan: Green (RoHS & no Sb/Br); Resolution(Bits): 8; Mounting Technology: Surface Mount; Code_JEDEC: MS-018; ComponentLink1Description: Manufacturer URL; ComponentLink1URL: http://www.ti.com/; ComponentLink2Description: Datasheet; ComponentLink2URL: http://www.ti.com/general/docs/lit/getliterature.tsp?genericPartNumber=TLC0820A&fileType=pdf; ComponentLink3Description: Package Specification; ComponentLink3URL: http://www.ti.com/litv/pdf/mplc004a
footprint TI-FN20_N (PLCC, 20-Leads, Body 8.965x8.965mm, Pitch 1.27mm, IPC Medium Density)
footprint TI-FN20_L (PLCC, 20-Leads, Body 8.965x8.965mm, Pitch 1.27mm, IPC High Density)
footprint TI-FN20_M (PLCC, 20-Leads, Body 8.965x8.965mm, Pitch 1.27mm, IPC Low Density)
pins: 1 ANLG IN (in) "Analog input", 2 D0 (hiz) "Digital, 3-state output data, bit 1 (LSB)", 3 D1 (hiz) "Digital, 3-state output data, bit 2", 4 D2 (hiz) "Digital, 3-state output data, bit 3", 5 D3 (hiz) "Digital, 3-state output data, bit 4", 6 ~{WR}/RDY (io) "Write ready. In the write-read mode with C\S\ low, the conversion is started on the falling edge of the W\R\ input signal. The result of the conversion is strobed into the output latch after the internal count-down delay (See Datasheet)", 7 MODE (in) "Mode select. MODE is internally tied to GND through a 50-uA current source, which acts like a pulldown resistor.When MODE is low, the read mode is selected. When MODE is high, the write-read mode is selected.", 8 ~{RD} (in) "Read. In the write-read mode with C\S\ low, the 3-state data outputs D0 through D7 are activated when R\D\ goes low. R\D\ can also be used to increase the conversion speed by reading data prior to the end of the internal (See Datasheet)", 9 ~{INT} (out) "Interrupt. In the write-read mode, the interrupt output (I\N\T\) going low indicates that the internal count-down delay time, td(int), is complete and the data result is in the output latch. The delay time td(int) is (See Datasheet)", 10 GND (power) "Ground", 11 REF- (in) "Reference voltage. REF- is placed on the bottom of the resistor ladder.", 12 REF+ (in) "Reference voltage. REF+ is placed on the top of the resistor ladder.", 13 ~{CS} (in) "Chip select. C\S\ must be low in order for R\D\ or W\R\ to be recognized by the ADC.", 14 D4 (hiz) "Digital, 3-state output data, bit 5", 15 D5 (hiz) "Digital, 3-state output data, bit 6", 16 D6 (hiz) "Digital, 3-state output data, bit 7", 17 D7 (hiz) "Digital, 3-state output data, bit 8 (MSB)", 18 ~{OFLW} (out) "Overflow. Normally O\F\L\W\ is a logical high. However, if the analog input is higher than Vref+, O\F\L\W\ will be low at the end of conversion. It can be used to cascade two or more devices to improve resolution (9 or 10 (See Datasheet)", 19 NC "No internal connection", 20 VCC (power) "Power supply voltage"

## TLC0820AIN
designator U?
8-Bit, 392 kSPS ADC Parallel Out, Microprocessor Peripheral, On-Chip Track-and-Hold, Single Channel, -40 to 85 degC, 20-pin DIP (N20), Pb-Free (RoHS); Manufacturer: Texas Instruments; PartNumber: TLC0820AIN; # Input Channels: 1; Analog Voltage AV/DD(Max)(V): 8; Analog Voltage AV/DD(Min)(V): 4.5; Architecture: SAR; Interface: Parallel CMOS; Sample Rate (max)(SPS): 392k; SubFamily: Precision ADC (<=10MSPS); DatasheetVersion: SLAS064A; PackageVersion: 4040049/E, 12/2002; PackageReference: N20; PackageDescription: 20-Pin Plastic In-Line, Body 25.40 x 6.35 mm, Pitch 2.54 mm; Supplier 1: Digi-Key; Supplier Part Number 1: TLC2543IDBRG4-ND; Digital Supply(Max)(V): 8; Digital Supply(Min)(V): 4.5; Eco-Plan: Pb-Free (RoHS); Resolution(Bits): 8; Mounting Technology: Through Hole; Code_JEDEC: MS-001; ComponentLink1Description: Manufacturer URL; ComponentLink1URL: http://www.ti.com/; ComponentLink2Description: Datasheet; ComponentLink2URL: http://www.ti.com/general/docs/lit/getliterature.tsp?genericPartNumber=TLC0820A&fileType=pdf; ComponentLink3Description: Package Specification; ComponentLink3URL: http://www.ti.com/lit/ml/mpdi002c/mpdi002c.pdf
footprint TI-N20 (DIP, 20-Leads, Body 25.4x6.35 mm, Pitch 2.54 mm)
pins: 1 ANLG IN (in) "Analog input", 2 D0 (hiz) "Digital, 3-state output data, bit 1 (LSB)", 3 D1 (hiz) "Digital, 3-state output data, bit 2", 4 D2 (hiz) "Digital, 3-state output data, bit 3", 5 D3 (hiz) "Digital, 3-state output data, bit 4", 6 ~{WR}/RDY (io) "Write ready. In the write-read mode with C\S\ low, the conversion is started on the falling edge of the W\R\ input signal. The result of the conversion is strobed into the output latch after the internal count-down delay (See Datasheet)", 7 MODE (in) "Mode select. MODE is internally tied to GND through a 50-uA current source, which acts like a pulldown resistor.When MODE is low, the read mode is selected. When MODE is high, the write-read mode is selected.", 8 ~{RD} (in) "Read. In the write-read mode with C\S\ low, the 3-state data outputs D0 through D7 are activated when R\D\ goes low. R\D\ can also be used to increase the conversion speed by reading data prior to the end of the internal (See Datasheet)", 9 ~{INT} (out) "Interrupt. In the write-read mode, the interrupt output (I\N\T\) going low indicates that the internal count-down delay time, td(int), is complete and the data result is in the output latch. The delay time td(int) is (See Datasheet)", 10 GND (power) "Ground", 11 REF- (in) "Reference voltage. REF- is placed on the bottom of the resistor ladder.", 12 REF+ (in) "Reference voltage. REF+ is placed on the top of the resistor ladder.", 13 ~{CS} (in) "Chip select. C\S\ must be low in order for R\D\ or W\R\ to be recognized by the ADC.", 14 D4 (hiz) "Digital, 3-state output data, bit 5", 15 D5 (hiz) "Digital, 3-state output data, bit 6", 16 D6 (hiz) "Digital, 3-state output data, bit 7", 17 D7 (hiz) "Digital, 3-state output data, bit 8 (MSB)", 18 ~{OFLW} (out) "Overflow. Normally O\F\L\W\ is a logical high. However, if the analog input is higher than Vref+, O\F\L\W\ will be low at the end of conversion. It can be used to cascade two or more devices to improve resolution (9 or 10 (See Datasheet)", 19 NC "No internal connection", 20 VCC (power) "Power supply voltage"

## TLC0820AINE4
designator U?
8-Bit, 392 kSPS ADC Parallel Out, Microprocessor Peripheral, On-Chip Track-and-Hold, Single Channel, -40 to 85 degC, 20-pin DIP (N20), Pb-Free (RoHS); Manufacturer: Texas Instruments; PartNumber: TLC0820AINE4; # Input Channels: 1; Analog Voltage AV/DD(Max)(V): 8; Analog Voltage AV/DD(Min)(V): 4.5; Architecture: SAR; Interface: Parallel CMOS; Sample Rate (max)(SPS): 392k; SubFamily: Precision ADC (<=10MSPS); DatasheetVersion: SLAS064A; PackageVersion: 4040049/E, 12/2002; PackageReference: N20; PackageDescription: 20-Pin Plastic In-Line, Body 25.40 x 6.35 mm, Pitch 2.54 mm; Supplier 1: Digi-Key; Supplier Part Number 1: 296-2900-5-ND; Digital Supply(Max)(V): 8; Digital Supply(Min)(V): 4.5; Eco-Plan: Pb-Free (RoHS); Resolution(Bits): 8; Mounting Technology: Through Hole; Code_JEDEC: MS-001; ComponentLink1Description: Manufacturer URL; ComponentLink1URL: http://www.ti.com/; ComponentLink2Description: Datasheet; ComponentLink2URL: http://www.ti.com/general/docs/lit/getliterature.tsp?genericPartNumber=TLC0820A&fileType=pdf; ComponentLink3Description: Package Specification; ComponentLink3URL: http://www.ti.com/lit/ml/mpdi002c/mpdi002c.pdf
footprint TI-N20 (DIP, 20-Leads, Body 25.4x6.35 mm, Pitch 2.54 mm)
pins: 1 ANLG IN (in) "Analog input", 2 D0 (hiz) "Digital, 3-state output data, bit 1 (LSB)", 3 D1 (hiz) "Digital, 3-state output data, bit 2", 4 D2 (hiz) "Digital, 3-state output data, bit 3", 5 D3 (hiz) "Digital, 3-state output data, bit 4", 6 ~{WR}/RDY (io) "Write ready. In the write-read mode with C\S\ low, the conversion is started on the falling edge of the W\R\ input signal. The result of the conversion is strobed into the output latch after the internal count-down delay (See Datasheet)", 7 MODE (in) "Mode select. MODE is internally tied to GND through a 50-uA current source, which acts like a pulldown resistor.When MODE is low, the read mode is selected. When MODE is high, the write-read mode is selected.", 8 ~{RD} (in) "Read. In the write-read mode with C\S\ low, the 3-state data outputs D0 through D7 are activated when R\D\ goes low. R\D\ can also be used to increase the conversion speed by reading data prior to the end of the internal (See Datasheet)", 9 ~{INT} (out) "Interrupt. In the write-read mode, the interrupt output (I\N\T\) going low indicates that the internal count-down delay time, td(int), is complete and the data result is in the output latch. The delay time td(int) is (See Datasheet)", 10 GND (power) "Ground", 11 REF- (in) "Reference voltage. REF- is placed on the bottom of the resistor ladder.", 12 REF+ (in) "Reference voltage. REF+ is placed on the top of the resistor ladder.", 13 ~{CS} (in) "Chip select. C\S\ must be low in order for R\D\ or W\R\ to be recognized by the ADC.", 14 D4 (hiz) "Digital, 3-state output data, bit 5", 15 D5 (hiz) "Digital, 3-state output data, bit 6", 16 D6 (hiz) "Digital, 3-state output data, bit 7", 17 D7 (hiz) "Digital, 3-state output data, bit 8 (MSB)", 18 ~{OFLW} (out) "Overflow. Normally O\F\L\W\ is a logical high. However, if the analog input is higher than Vref+, O\F\L\W\ will be low at the end of conversion. It can be used to cascade two or more devices to improve resolution (9 or 10 (See Datasheet)", 19 NC "No internal connection", 20 VCC (power) "Power supply voltage"